# EAGLE library part DS1302Z+T&R (library DS1302Z_T_R)
Trickle-Charge Timekeeping Chip
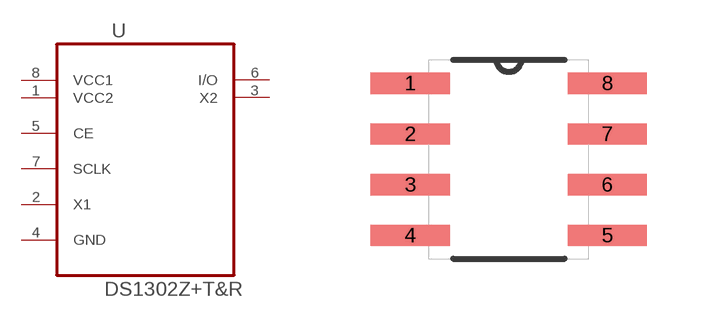
[diagram p0: symbol with the pads of SOIC127P600X175-8N; footprint SOIC127P600X175-8N]

Designator prefix U

## DS1302Z+T&R (Availability: Good; Description: Real Time Clock Serial 31Byte 8-Pin SOIC N T/R; MF: Maxim Integrated; MP: DS1302Z+T&amp;R; Package: SOIC-8 Maxim Integrated; Price: 1.99 USD)  [SOIC127P600X175-8N]
1  VCC2  pwr
2  X1  in
3  X2  out
4  GND  pas
5  CE  in
6  I/O
7  SCLK  in
8  VCC1  pwr

## Footprint SOIC127P600X175-8N (pad centres in mm)
smd 1.981 x 0.533: 1 -2.464,1.905; 2 -2.464,0.635; 3 -2.464,-0.635; 4 -2.464,-1.905; 5 2.464,-1.905; 6 2.464,-0.635; 7 2.464,0.635; 8 2.464,1.905